# Altium schematic symbol library dvl.SchLib: 1 symbol
Pins are listed as number, name and electrical type; pins without a type are passive.

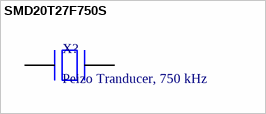
[diagram p0: symbol SMD20T27F750S]

## SMD20T27F750S
designator X?, comment Peizo Tranducer, 750 kHz
pins: 1, 2